# Altium footprint library STM32-V5_PCB封装(AD10).PcbLib: 68 footprints (part 1 of 5)
Each footprint in its own frame and in the unit in brackets; x right, y up, seen from the top. Pads: shape width x height; smd on the part's side, far side on the other; paste and mask are expansions set on the pad; w line width, h text height; cw(c..) or ccw(c..) is an arc to the next point about the centre after c.
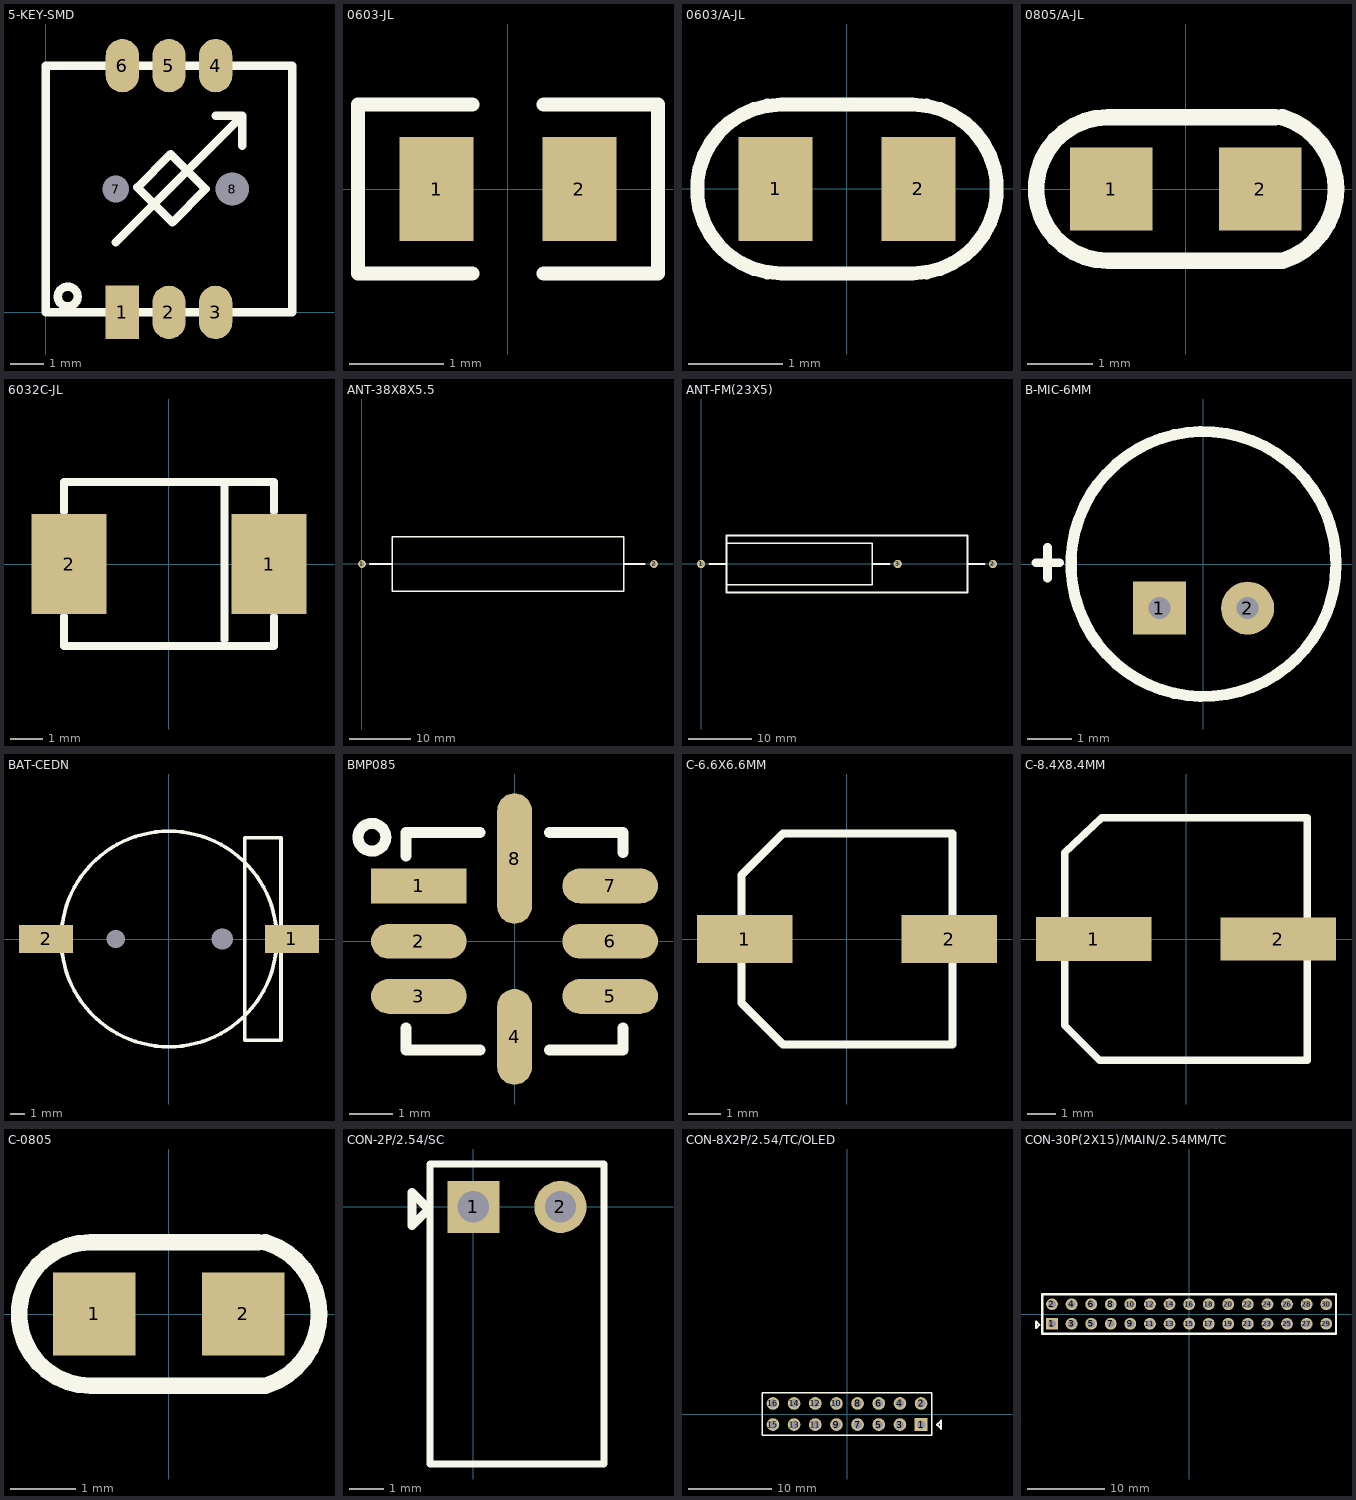
[diagram p0: the footprints below, top view; thin cyan lines are the x and y axes]

## 5-KEY-SMD [mm]
pads (8):
  rect 1x1.6 smd: 1(2.3,0)
  oval 1x1.6 smd: 2(3.7,0) 3(5.1,0) 4(5.1,7.4) 5(3.7,7.4) 6(2.3,7.4)
  round 0.5 hole 0.8 unplated: 7(2.1,3.7)
  round 0.5 hole 1 unplated: 8(5.6,3.7)
Top Overlay:
  circle w0.254: c0.661,0.474 r0.298
  lines w0.254: 2.1,2.1 5.9,5.9 ; 5.1,5.9 5.9,5.9 ; 5.9,5 5.9,5.9 ; 0,0 7.4,0 7.4,7.4 0,7.4 0,0 ; 2.75,3.75 3.8,2.7 4.8,3.7 3.75,4.75 2.75,3.75

## 0603-JL [mm]
pads (2):
  rect 0.787x1.11 smd: 1(-0.761,0) 2(0.762,0)
Top Overlay:
  lines w0.15: -0.381,-0.9 -1.6,-0.9 -1.6,0.9 -0.381,0.9 ; 0.381,-0.9 1.6,-0.9 1.6,0.9 0.381,0.9

## 0603/A-JL [mm]
pads (2):
  rect 0.787x1.11 smd: 1(-0.762,0) 2(0.761,0)
Top Overlay:
  lines w0.15: -0.7,-0.9 cw(c-0.7,0) -0.7,0.9 0.7,0.9 cw(c0.7,0) 0.7,-0.9 -0.7,-0.9

## 0805/A-JL [mil]
pads (2):
  rect 50x50 smd: 1(-45,0) 2(45,0)
Top Overlay:
  lines w10: 52.07,-43.31 -47.14,-43.31 cw(c-47.14,0) -47.14,43.31 54.04,43.31 ; 53.54,-43.31 58.63,-43.31 ccw(c45.47,0) 58.63,43.31 57.98,43.31

## 6032C-JL [mil]
pads (2):
  rect 90x120 smd: 1(120,0) 2(-120,0)
Top Overlay:
  lines w10: -125.98,-62.99 -125.98,-98.42 125.98,-98.42 125.98,-62.99 ; -125.98,62.99 -125.98,98.43 125.98,98.43 125.98,62.99 ; 66.53,-90.55 66.53,94.49

## ANT-38X8X5.5 [mm]
pads (2):
  round 1.3 hole 0.7: 1(0,0) 2(48,0)
Top Overlay:
  lines w0.254: 1.27,0 5,0 ; 43,0 46.5,0 ; 5,-4.5 43,-4.5 43,4.5 5,4.5 5,-4.5

## ANT-FM(23X5) [mm]
pads (3):
  round 1.3 hole 0.7: 1(0,0) 2(46,0) 3(31,0)
Top Overlay:
  lines w0.254: 1.27,0 4,0 ; 27,0 29.7,0 ; 42,0 44.7,0 ; 4,-4.5 42,-4.5 42,4.5 4,4.5 4,-4.5 ; 4,-3.25 4,3.25 27,3.25 27,-3.25 4,-3.25

## B-MIC-6MM [mm]
pads (2):
  rect 1.2x1.2 hole 0.5: 1(-1,-1)
  round 1.2 hole 0.5: 2(1,-1)
Top Overlay:
  circle w0.254: c0,0 r3
  lines w0.2: -3.792,0.03 -3.262,0.03 ; -3.532,-0.32 -3.532,0.38

## BAT-CEDN [mm]
pads (4):
  rect 3.81x2 smd: 1(8.636,0) 2(-8.636,0)
  round 0 hole 1.5 unplated: 3(3.75,0)
  round 0 hole 1.3 unplated: 4(-3.75,0)
Top Overlay:
  circle w0.254: c0,0 r7.578
  lines w0.254: 5.334,-7.112 5.334,7.112 7.874,7.112 7.874,-7.112 5.334,-7.112

## BMP085 [mm]
pads (8):
  rect 2.2x0.8 smd: 1(-2.2,1.27)
  oval 2.2x0.8 smd: 2(-2.2,0) 3(-2.2,-1.27) 5(2.2,-1.27) 6(2.2,0) 7(2.2,1.27)
  oval 0.8x2.2 smd: 4(0,-2.2)
  oval 0.8x3 smd: 8(0,1.9)
Top Overlay:
  circle w0.254: c-3.28,2.39 r0.32
  lines w0.254: -2.5,-2 -2.5,-2.5 -0.8,-2.5 ; -2.5,1.96 -2.5,2.5 -0.8,2.5 ; 0.8,-2.5 2.5,-2.5 2.5,-2 ; 0.8,2.5 2.5,2.5 2.5,2.04

## C-6.6X6.6MM [mm]
pads (2):
  rect 3x1.5 smd: 1(-3.2,0) 2(3.2,0)
Top Overlay:
  lines w0.254: -3.3,-2 -3.3,2 -2,3.3 3.3,3.3 3.3,-3.3 -2,-3.3 -3.3,-2

## C-8.4X8.4MM [mm]
pads (2):
  rect 4x1.524 smd: 1(-3.2,0)
  rect 4x1.5 smd: 2(3.2,0)
Top Overlay:
  lines w0.254: -4.2,-3 -4.2,3 -2.92,4.2 4.2,4.2 4.2,-4.2 -3,-4.2 -4.2,-3

## C-0805 [mil]
pads (2):
  rect 50x50 smd: 1(-45,0) 2(45,0)
Top Overlay:
  lines w10: 52.07,-43.31 -47.14,-43.31 cw(c-47.14,0) -47.14,43.31 54.04,43.31 ; 53.54,-43.31 58.63,-43.31 ccw(c45.47,0) 58.63,43.31 57.98,43.31

## CON-2P/2.54/SC [mil]
pads (2):
  rect 60x60 hole 36: 1(0,0)
  round 60 hole 36: 2(100,0)
Top Overlay:
  lines w7.87: -50,-295.28 150,-295.28 150,49.29 -50,49.29 -50,-295.28
  lines w10: -70.47,-21.65 -51.28,-2.46 -51.28,-1.97 -51.77,-1.97 -70.47,16.73 -70.47,-21.65

## CON-8X2P/2.54/TC/OLED [mil]
pads (16):
  rect 60x60 / inner round 60 / far side round 60 hole 40: 1(350,-50)
  round 60 hole 40: 2(350,50) 3(250,-50) 4(250,50) 5(150,-50) 6(150,50) 7(50,-50) 8(50,50) 9(-50,-50) 10(-50,50) 11(-150,-50) 12(-150,50) 13(-250,-50) 14(-250,50) 16(-350,50)
  round 60 / inner rect 60x60 / far side rect 60x60 hole 40: 15(-350,-50)
Top Overlay:
  lines w7.87: -400,-100 400,-100 400,100 -400,100 -400,-100
  lines w10: 425.49,-50.79 425.98,-50.79 444.68,-69.49 444.68,-31.1 425.49,-50.3 425.49,-50.79
Drill Drawing:
  lines w10: -708.66,-118.11 -708.66,1062.99 708.66,1062.99 708.66,-118.11 -708.66,-118.11

## CON-30P(2X15)/MAIN/2.54MM/TC [mil]
pads (30):
  rect 60x60 hole 40: 1(-700,-50)
  round 60 hole 40: 2(-700,50) 3(-600,-50) 4(-600,50) 5(-500,-50) 6(-500,50) 7(-400,-50) 8(-400,50) 9(-300,-50) 10(-300,50) 11(-200,-50) 12(-200,50) 13(-100,-50) 14(-100,50) 15(0,-50) 16(0,50) 17(100,-50) 18(100,50) 19(200,-50) 20(200,50) 21(300,-50) 22(300,50) 23(400,-50) 24(400,50) 25(500,-50) 26(500,50) 27(600,-50) 28(600,50) 29(700,-50) 30(700,50)
Top Overlay:
  lines w10: -781.63,-71.14 -780.22,-68.31 -780.22,-71.61 -764.04,-55.43 -781.63,-37.83 -781.63,-71.14
  lines w12: -750,-100 750,-100 750,100 -750,100 -750,-100